# Altium footprint library AP2112K-3P3TRG1.PcbLib: 3 footprints
Each footprint in its own frame and in the unit in brackets; x right, y up, seen from the top. Pads: shape width x height; smd on the part's side, far side on the other; paste and mask are expansions set on the pad; w line width, h text height; cw(c..) or ccw(c..) is an arc to the next point about the centre after c.
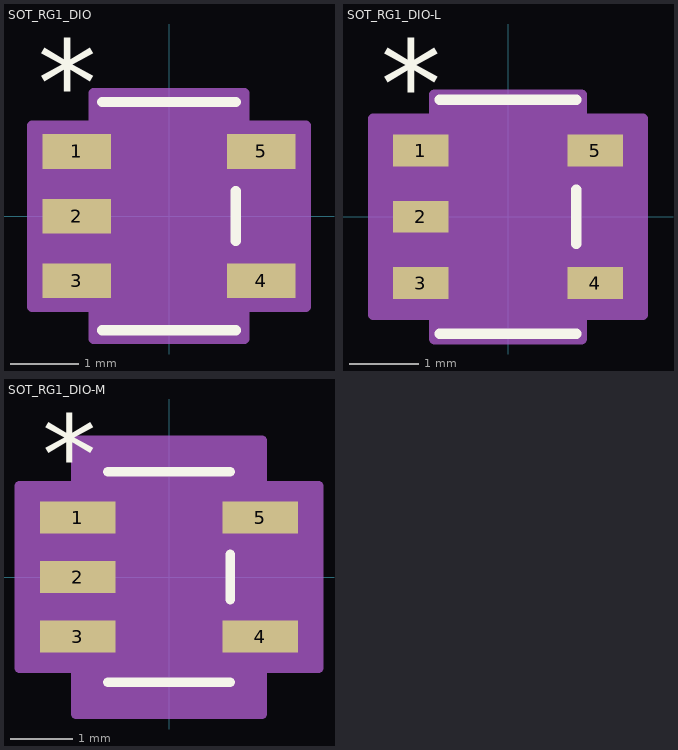
[diagram p0: the footprints below, top view; thin cyan lines are the x and y axes]

## SOT_RG1_DIO [mil]
pads (5):
  rect 39.5x20 smd paste+0 mask+0: 1(-53.25,37.4) 2(-53.25,0) 3(-53.25,-37.4) 4(53.25,-37.4) 5(53.25,37.4)
Top Overlay:
  lines w6: -38.5,-66 38.5,-66 ; -38.5,66 38.5,66 ; 38.5,-14.3 38.5,14.3
  text ".Designator" at -137.5,-25 h50
  text "*" at -75.75,52.4 h50
Mechanical 13:
  lines w1: -12,61 ccw(c0,61) 12,61 ; -59,-47.4 -59,-27.4 -33.5,-27.4 -33.5,-47.4 -59,-47.4 ; -59,-10 -59,10 -33.5,10 -33.5,-10 -59,-10 ; -59,27.4 -59,47.4 -33.5,47.4 -33.5,27.4 -59,27.4 ; -33.5,-61 33.5,-61 33.5,61 -33.5,61 -33.5,-61 ; 33.5,-47.4 33.5,-27.4 59,-27.4 59,-47.4 33.5,-47.4 ; 33.5,27.4 33.5,47.4 59,47.4 59,27.4 33.5,27.4
  text "*" at -36,9.4 h50
  text ".Designator" at -137.5,-25 h50
Mechanical 15:
  region: 43.5,-71 -43.5,-71 -43.5,-52.4 -79,-52.4 -79,52.4 -43.5,52.4 -43.5,71 43.5,71 43.5,52.4 79,52.4 79,-52.4 43.5,-52.4
  lines w6: -79,-52.4 -43.5,-52.4 -43.5,-71 43.5,-71 43.5,-52.4 79,-52.4 79,52.4 43.5,52.4 43.5,71 -43.5,71 -43.5,52.4 -79,52.4 -79,-52.4
3D body "SOT_RG1_DIO.step": height 51.1, standoff 0, extent -59.02,-60.98 59.02,60.98

## SOT_RG1_DIO-L [mil]
pads (5):
  rect 31.5x18 smd paste+0 mask+0: 1(-49.25,37.4) 2(-49.25,0) 3(-49.25,-37.4) 4(49.25,-37.4) 5(49.25,37.4)
Top Overlay:
  lines w6: -38.5,-66 38.5,-66 ; -38.5,66 38.5,66 ; 38.5,-15.3 38.5,15.3
  text ".Designator" at -137.5,-25 h50
  text "*" at -71.75,50.4 h50
Mechanical 13:
  lines w1: -12,61 ccw(c0,61) 12,61 ; -59,-47.4 -59,-27.4 -33.5,-27.4 -33.5,-47.4 -59,-47.4 ; -59,-10 -59,10 -33.5,10 -33.5,-10 -59,-10 ; -59,27.4 -59,47.4 -33.5,47.4 -33.5,27.4 -59,27.4 ; -33.5,-61 33.5,-61 33.5,61 -33.5,61 -33.5,-61 ; 33.5,-47.4 33.5,-27.4 59,-27.4 59,-47.4 33.5,-47.4 ; 33.5,27.4 33.5,47.4 59,47.4 59,27.4 33.5,27.4
  text "*" at -36,7.4 h50
  text ".Designator" at -137.5,-25 h50
Mechanical 15:
  region: 41.5,-69 -41.5,-69 -41.5,-55.4 -76,-55.4 -76,55.4 -41.5,55.4 -41.5,69 41.5,69 41.5,55.4 76,55.4 76,-55.4 41.5,-55.4
  lines w6: -76,-55.4 -41.5,-55.4 -41.5,-69 41.5,-69 41.5,-55.4 76,-55.4 76,55.4 41.5,55.4 41.5,69 -41.5,69 -41.5,55.4 -76,55.4 -76,-55.4
3D body "SOT_RG1_DIO.step": height 51.1, standoff 0, extent -59.02,-60.98 59.02,60.98

## SOT_RG1_DIO-M [mil]
pads (5):
  rect 47.5x20 smd paste+0 mask+0: 1(-57.25,37.4) 2(-57.25,0) 3(-57.25,-37.4) 4(57.25,-37.4) 5(57.25,37.4)
Top Overlay:
  lines w6: -38.5,-66 38.5,-66 ; -38.5,66 38.5,66 ; 38.5,-14.3 38.5,14.3
  text ".Designator" at -137.5,-25 h50
  text "*" at -79.75,52.4 h50
Mechanical 13:
  lines w1: -12,61 ccw(c0,61) 12,61 ; -59,-47.4 -59,-27.4 -33.5,-27.4 -33.5,-47.4 -59,-47.4 ; -59,-10 -59,10 -33.5,10 -33.5,-10 -59,-10 ; -59,27.4 -59,47.4 -33.5,47.4 -33.5,27.4 -59,27.4 ; -33.5,-61 33.5,-61 33.5,61 -33.5,61 -33.5,-61 ; 33.5,-47.4 33.5,-27.4 59,-27.4 59,-47.4 33.5,-47.4 ; 33.5,27.4 33.5,47.4 59,47.4 59,27.4 33.5,27.4
  text "*" at -36,9.4 h50
  text ".Designator" at -137.5,-25 h50
Mechanical 15:
  region: 58.5,-86 -58.5,-86 -58.5,-57.4 -94,-57.4 -94,57.4 -58.5,57.4 -58.5,86 58.5,86 58.5,57.4 94,57.4 94,-57.4 58.5,-57.4
  lines w6: -94,-57.4 -58.5,-57.4 -58.5,-86 58.5,-86 58.5,-57.4 94,-57.4 94,57.4 58.5,57.4 58.5,86 -58.5,86 -58.5,57.4 -94,57.4 -94,-57.4
3D body "SOT_RG1_DIO.step": height 51.1, standoff 0, extent -59.02,-60.98 59.02,60.98